# EAGLE library part PIC12F1572 (library microchip)
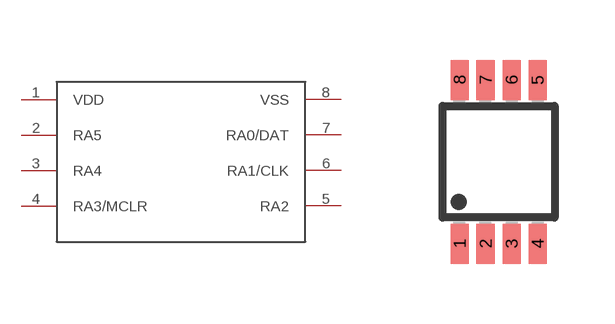
[diagram p143: symbol with the pads of MSOP8; footprint MSOP8]

Designator prefix -

## PIC12F1572  [MSOP8]
1  VDD
2  RA5
3  RA4
4  RA3/MCLR
5  RA2
6  RA1/CLK
7  RA0/DAT
8  VSS

## Footprint MSOP8 (pad centres in mm)
Micro Small Outline Package Grid 0.65mm Source: http://ww1.microchip.com/downloads/en/DeviceDoc/21796H.pdf
smd 0.45 x 1: 1 -0.975,-2.05; 2 -0.325,-2.05; 3 0.325,-2.05; 4 0.975,-2.05; 5 0.975,2.05; 6 0.325,2.05; 7 -0.325,2.05; 8 -0.975,2.05